# EAGLE library part MAX25432 (library BW-Active)
100W USB PD PPS Buck-Boost Port Controller and Protector
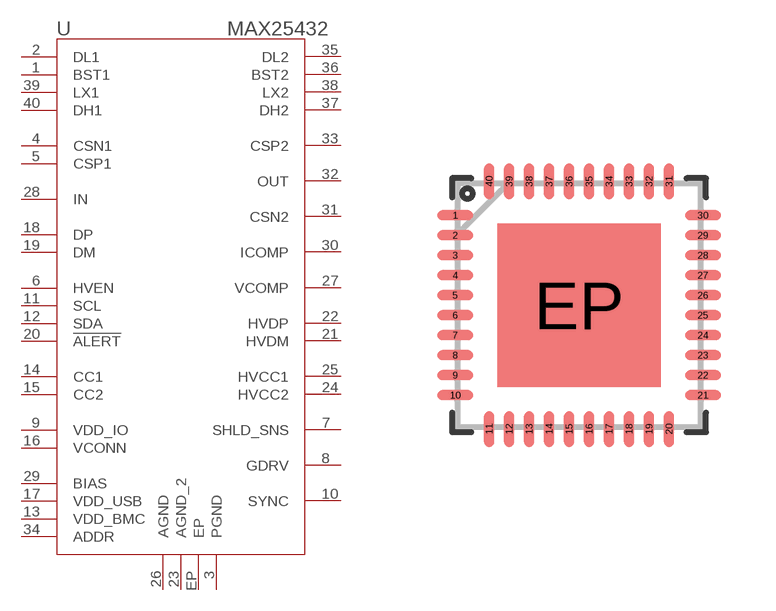
[diagram p47: symbol with the pads of TQFN-40; footprint TQFN-40]

Designator prefix U

## MAX25432 (COPYRIGHT: Copyright (C) 2023 Ultra Librarian. All rights reserved.; MANUFACTURER_PART_NUMBER: MAX25432BATLG/V+; MFR_NAME: Analog Devices Inc)  [TQFN-40]
1  BST1  pas
2  DL1  out
3  PGND  pas
4  CSN1  in
5  CSP1  in
6  HVEN  in
7  SHLD_SNS  pas
8  GDRV  out
9  VDD_IO  pwr
10  SYNC
11  SCL  pas
12  SDA  pas
13  VDD_BMC  pwr
14  CC1  pas
15  CC2  pas
16  VCONN  pwr
17  VDD_USB  pwr
18  DP  pas
19  DM  pas
20  !ALERT  out
21  HVDM  pas
22  HVDP  pas
23  AGND_2  pas
24  HVCC2  pas
25  HVCC1  pas
26  AGND  pas
27  VCOMP  out
28  IN  pwr
29  BIAS  out
30  ICOMP  pas
31  CSN2  pas
32  OUT  pas
33  CSP2  out
34  ADDR  pas
35  DL2  out
36  BST2  pas
37  DH2  out
38  LX2  out
39  LX1  out
40  DH1  out
EP  EP  pas

## Footprint TQFN-40 (pad centres in mm)
smd 0.9 x 0.25: 1 -3.098,2.25; 2 -3.098,1.75; 3 -3.098,1.25; 4 -3.098,0.75; 5 -3.098,0.25; 6 -3.098,-0.25; 7 -3.098,-0.75; 8 -3.098,-1.25; 9 -3.098,-1.75; 10 -3.098,-2.25; 21 3.098,-2.25; 22 3.098,-1.75; 23 3.098,-1.25; 24 3.098,-0.75; 25 3.098,-0.25; 26 3.098,0.25; 27 3.098,0.75; 28 3.098,1.25; 29 3.098,1.75; 30 3.098,2.25
smd 0.25 x 0.9: 11 -2.25,-3.098; 12 -1.75,-3.098; 13 -1.25,-3.098; 14 -0.75,-3.098; 15 -0.25,-3.098; 16 0.25,-3.098; 17 0.75,-3.098; 18 1.25,-3.098; 19 1.75,-3.098; 20 2.25,-3.098; 31 2.25,3.098; 32 1.75,3.098; 33 1.25,3.098; 34 0.75,3.098; 35 0.25,3.098; 36 -0.25,3.098; 37 -0.75,3.098; 38 -1.25,3.098; 39 -1.75,3.098; 40 -2.25,3.098
smd 4.089 x 4.089: EP 0,0